# Altium footprint library QFN-32_7x7x065P.PcbLib: 1 footprints
Each footprint in its own frame and in the unit in brackets; x right, y up, seen from the top. Pads: shape width x height; smd on the part's side, far side on the other; paste and mask are expansions set on the pad; w line width, h text height; cw(c..) or ccw(c..) is an arc to the next point about the centre after c.
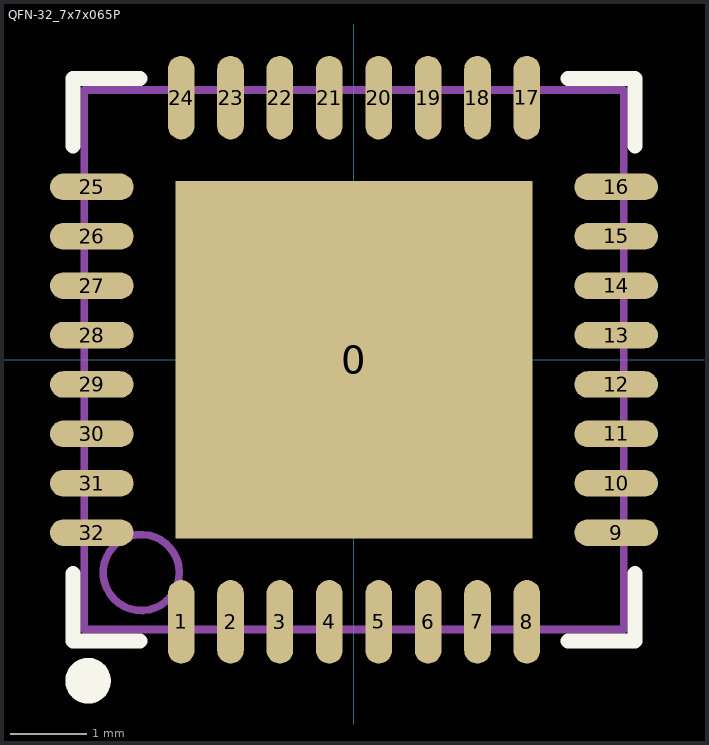
[diagram p0: the footprint, top view; thin cyan lines are the x and y axes]

## QFN-32_7x7x065P [mm]
pads (33):
  rect 4.7x4.7 smd paste-2.35 mask+0.051: 0(0,0)
  oval 0.35x1.1 smd mask+0.051: 1(-2.275,-3.45) 2(-1.625,-3.45) 3(-0.975,-3.45) 4(-0.325,-3.45) 5(0.325,-3.45) 6(0.975,-3.45) 7(1.625,-3.45) 8(2.275,-3.45) 17(2.275,3.45) 18(1.625,3.45) 19(0.975,3.45) 20(0.325,3.45) 21(-0.325,3.45) 22(-0.975,3.45) 23(-1.625,3.45) 24(-2.275,3.45)
  oval 1.1x0.35 smd mask+0.051: 9(3.45,-2.275) 10(3.45,-1.625) 11(3.45,-0.975) 12(3.45,-0.325) 13(3.45,0.325) 14(3.45,0.975) 15(3.45,1.625) 16(3.45,2.275) 25(-3.45,2.275) 26(-3.45,1.625) 27(-3.45,0.975) 28(-3.45,0.325) 29(-3.45,-0.325) 30(-3.45,-0.975) 31(-3.45,-1.625) 32(-3.45,-2.275)
Top Overlay:
  circle w0.3: c-3.5,-4.225 r0.15
  lines w0.2: -3.7,-2.815 -3.7,-3.7 -2.815,-3.7 ; -3.7,2.815 -3.7,3.7 -2.815,3.7 ; 2.815,-3.7 3.7,-3.7 3.7,-2.815 ; 2.815,3.7 3.7,3.7 3.7,2.815
Top Paste:
  rectangle: 0.65,-1.35 1.35,-0.65
  rectangle: -1.35,-1.35 -0.65,-0.65
  rectangle: -0.35,-1.35 0.35,-0.65
  rectangle: 0.65,-0.35 1.35,0.35
  rectangle: 0.65,0.65 1.35,1.35
  region: -0.65,1.35 -1.35,1.35 -1.35,0.65 -0.65,0.65
  rectangle: -0.35,0.65 0.35,1.35
  rectangle: -0.35,-0.35 0.35,0.35
  region: -0.65,0.35 -1.35,0.35 -1.35,-0.35 -0.65,-0.35
Mechanical 13:
  circle w0.1: c-2.8,-2.8 r0.5
  lines w0.1: -3.55,-3.55 -3.55,3.55 3.55,3.55 3.55,-3.55 -3.55,-3.55